# Altium footprint library RK10J12E002L.PcbLib: 1 footprints
Each footprint in its own frame and in the unit in brackets; x right, y up, seen from the top. Pads: shape width x height; smd on the part's side, far side on the other; paste and mask are expansions set on the pad; w line width, h text height; cw(c..) or ccw(c..) is an arc to the next point about the centre after c.
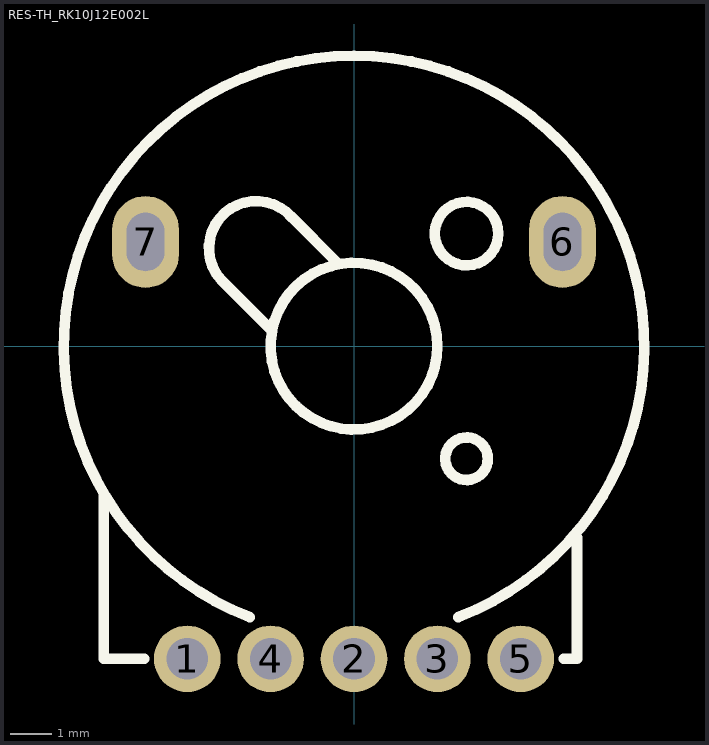
[diagram p0: the footprint, top view; thin cyan lines are the x and y axes]

## RES-TH_RK10J12E002L [mm]
pads (7):
  round 1.6 hole 1: 1(-4,-7.5) 2(0,-7.5) 3(2,-7.5) 4(-2,-7.5) 5(4,-7.5)
  oval 1.6x2.2 hole 0.9 slot 1.4 at 90 deg: 6(5,2.5) 7(-5,2.5)
Top Overlay:
  circle w0.254: c0,0 r2
  circle w0.254: c2.7,2.7 r0.761
  circle w0.254: c2.7,-2.7 r0.51
  lines w0.254: -6,-3.6 -6,-5 -6,-7.5 -5.031,-7.5 ; -2.5,-6.5 cw(c0,0) 2.5,-6.5 ; -2,0.4 -3.2,1.6 cw(c-2.347,2.346) -1.501,3.099 ; -1.5,3.1 -0.4,2 ; 5.031,-7.5 5.35,-7.5 5.35,-5 5.35,-4.6
3D body "RK10J1_E.STEP": height 2.3, standoff -1.5, extent -7,-7.65 7,7